# Altium footprint library wzmacniacze.PcbLib: 1 footprints
Each footprint in its own frame and in the unit in brackets; x right, y up, seen from the top. Pads: shape width x height; smd on the part's side, far side on the other; paste and mask are expansions set on the pad; w line width, h text height; cw(c..) or ccw(c..) is an arc to the next point about the centre after c.
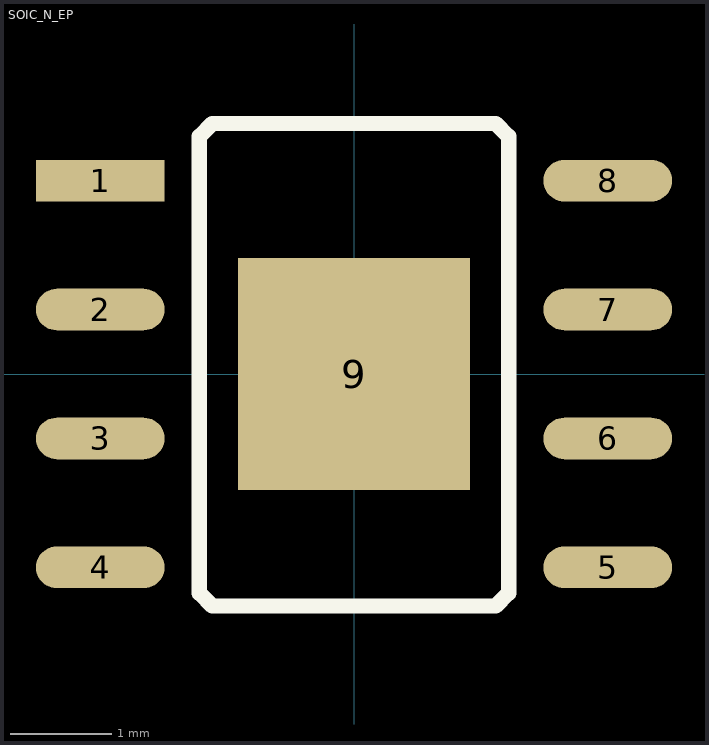
[diagram p0: the footprint, top view; thin cyan lines are the x and y axes]

## SOIC_N_EP [mm]
pads (9):
  rect 1.27x0.41 smd: 1(-2.5,1.905)
  oval 1.27x0.41 smd: 2(-2.5,0.635) 3(-2.5,-0.635) 4(-2.5,-1.905) 5(2.5,-1.905) 6(2.5,-0.635) 7(2.5,0.635) 8(2.5,1.905)
  rect 2.29x2.29 smd: 9(0,0)
Top Overlay:
  lines w0.152: -1.524,-2.159 -1.524,2.341 -1.397,2.468 1.397,2.468 1.524,2.341 1.524,-2.159 1.397,-2.286 -1.397,-2.286 -1.524,-2.159